# Altium footprint library 第二版PCB.PcbLib: 20 footprints (part 2 of 2)
Each footprint in its own frame and in the unit in brackets; x right, y up, seen from the top. Pads: shape width x height; smd on the part's side, far side on the other; paste and mask are expansions set on the pad; w line width, h text height; cw(c..) or ccw(c..) is an arc to the next point about the centre after c.
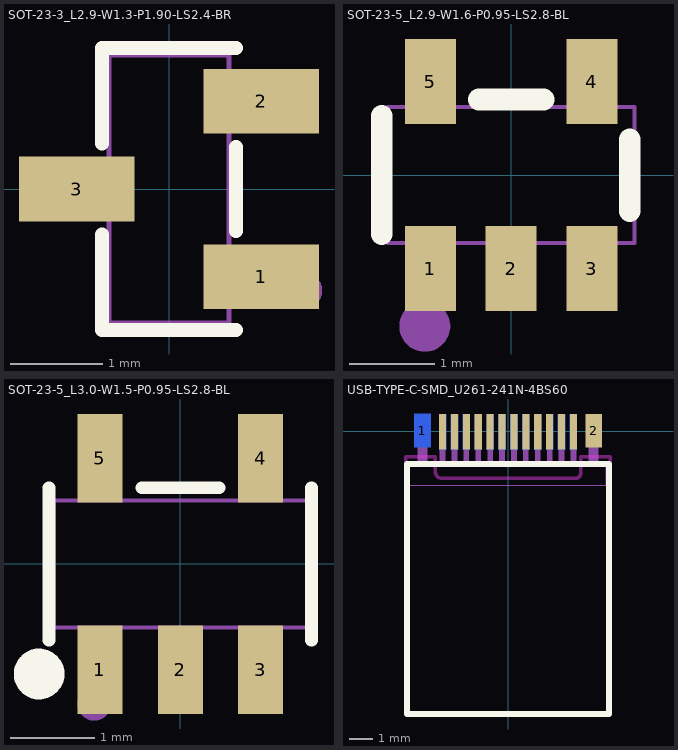
[diagram p1: the footprints below, top view; thin cyan lines are the x and y axes]

## SOT-23-3_L2.9-W1.3-P1.90-LS2.4-BR [mm]
pads (3):
  rect 1.25x0.7 smd paste+0 mask+0.051: 1(1,-0.95) 2(1,0.95) 3(-1,0)
Top Overlay:
  lines w0.152: -0.726,-0.495 -0.726,-1.526 0.726,-1.526 ; -0.726,0.495 -0.726,1.526 0.726,1.526 ; 0.726,-0.455 0.726,0.455
Mechanical 6:
  circle w0.2: c1.46,-1.1 r0.1
Mechanical 15:
  region: 0.64,0.735 0.64,1.165 0.91,1.165 0.91,0.735
  region: 0.9,0.735 0.9,1.165 1.2,1.165 1.2,0.735
  region: 0.64,-1.165 0.64,-0.735 0.91,-0.735 0.91,-1.165
  region: 0.9,-1.165 0.9,-0.735 1.2,-0.735 1.2,-1.165
  region: -0.91,-0.215 -0.91,0.215 -0.64,0.215 -0.64,-0.215
  region: -1.2,-0.215 -1.2,0.215 -0.9,0.215 -0.9,-0.215
  lines w0.051: -0.65,-1.45 -0.65,1.45 0.65,1.45 0.65,-1.45 -0.65,-1.45

## SOT-23-5_L2.9-W1.6-P0.95-LS2.8-BL [mm]
pads (5):
  rect 0.6x1 smd paste+0 mask+0.05: 1(-0.95,-1.1) 2(0,-1.1) 3(0.95,-1.1) 4(0.95,1.1) 5(-0.95,1.1)
Top Overlay:
  lines w0.254: -1.524,-0.699 -1.524,0.699 ; -0.381,0.889 0.381,0.889 ; 1.397,-0.422 1.397,0.422
Mechanical 6:
  circle w0.3: c-1.016,-1.778 r0.15
Mechanical 15:
  region: -1.15,0.95 -1.15,1.4 -0.75,1.4 -0.75,0.95
  region: -1.15,0.79 -1.15,0.96 -0.75,0.96 -0.75,0.79
  region: 0.75,0.95 0.75,1.4 1.15,1.4 1.15,0.95
  region: 0.75,0.79 0.75,0.96 1.15,0.96 1.15,0.79
  region: -1.15,-1.4 -1.15,-0.95 -0.75,-0.95 -0.75,-1.4
  region: -1.15,-0.96 -1.15,-0.79 -0.75,-0.79 -0.75,-0.96
  region: 0.75,-1.4 0.75,-0.95 1.15,-0.95 1.15,-1.4
  region: 0.75,-0.96 0.75,-0.79 1.15,-0.79 1.15,-0.96
  region: -0.2,-1.4 -0.2,-0.95 0.2,-0.95 0.2,-1.4
  region: -0.2,-0.96 -0.2,-0.79 0.2,-0.79 0.2,-0.96
  lines w0.051: -1.45,-0.8 1.45,-0.8 1.45,0.8 -1.45,0.8 -1.45,-0.8

## SOT-23-5_L3.0-W1.5-P0.95-LS2.8-BL [mm]
pads (5):
  rect 0.532x1.045 smd: 1(-0.95,-1.25) 2(0,-1.25) 3(0.95,-1.25) 4(0.95,1.25) 5(-0.95,1.25)
Top Overlay:
  circle w0.3: c-1.668,-1.3 r0.15
  lines w0.152: -1.551,-0.901 -1.551,0.901 ; -0.455,0.901 0.455,0.901 ; 1.551,-0.901 1.551,0.901
Mechanical 6:
  circle w0.2: c-1.016,-1.651 r0.1
Mechanical 15:
  region: 1.163,-0.96 0.737,-0.96 0.737,-0.74 1.163,-0.74
  region: 0.213,-0.96 -0.212,-0.96 -0.212,-0.74 0.213,-0.74
  region: -0.737,-0.96 -1.162,-0.96 -1.162,-0.74 -0.737,-0.74
  region: 0.737,0.96 1.162,0.96 1.162,0.74 0.737,0.74
  region: -1.163,-0.95 -0.737,-0.95 -0.737,-1.4 -1.163,-1.4
  region: -0.212,-0.95 0.212,-0.95 0.212,-1.4 -0.212,-1.4
  region: 0.737,-0.95 1.163,-0.95 1.163,-1.4 0.737,-1.4
  region: 0.737,0.95 1.163,0.95 1.163,1.4 0.737,1.4
  region: -1.163,0.95 -0.737,0.95 -0.737,1.4 -1.163,1.4
  region: -1.163,0.96 -0.737,0.96 -0.737,0.74 -1.163,0.74
  lines w0.051: -1.5,-0.75 1.5,-0.75 1.5,0.75 -1.5,0.75 -1.5,-0.75

## USB-TYPE-C-SMD_U261-241N-4BS60 [mm]
pads (26):
  rect 0.7x1.4 smd far side paste+0 mask+0.05: 1(-3.6,0.025)
  rect 0.7x1.4 smd paste+0 mask+0.05: 2(3.6,0.025)
  rect 0.3x1.5 smd paste+0 mask+0.05: A1(2.75,-0.025) A2(2.25,-0.025) A3(1.75,-0.025) A4(1.25,-0.025) A5(0.75,-0.025) A6(0.25,-0.025) A7(-0.25,-0.025) A8(-0.75,-0.025) A9(-1.25,-0.025) A10(-1.75,-0.025) A11(-2.25,-0.025) A12(-2.75,-0.025)
  rect 0.3x1.5 smd far side paste+0 mask+0.05: B1(-2.75,-0.025) B2(-2.25,-0.025) B3(-1.75,-0.025) B4(-1.25,-0.025) B5(-0.75,-0.025) B6(-0.25,-0.025) B7(0.25,-0.025) B8(0.75,-0.025) B9(1.25,-0.025) B10(1.75,-0.025) B11(2.25,-0.025) B12(2.75,-0.025)
Top Overlay:
  lines w0.254: -4.25,-11.885 -4.25,-1.385 4.25,-1.385 4.25,-11.885 -4.25,-11.885
Keep-Out Layer:
  lines w0.15: -4.3,-1.075 -4.3,-1.975 -4.3,-1.075 ; -4.3,-1.075 -3.05,-1.075 ; -4.3,-1.075 -3.05,-1.075 ; -3.05,-1.719 ccw(c-2.794,-1.719) -2.794,-1.975 cw(c-2.794,-1.719) -3.05,-1.719 ; -3.05,-1.719 -3.05,-1.7 ; -3.05,-1.719 -3.05,-1.7 ; -3.05,-1.7 -3.05,-1.075 ; -3.05,-1.7 -3.05,-1.075 ; 2.86,-1.975 ccw(c2.86,-1.785) 3.05,-1.785 ; 2.86,-1.975 ccw(c2.86,-1.785) 3.05,-1.785 ; 2.86,-1.975 -2.741,-1.975 2.86,-1.975 ; 3.05,-1.785 3.05,-1.075 ; 3.05,-1.785 3.05,-1.075 ; 3.05,-1.075 4.3,-1.075 ; 3.05,-1.075 4.3,-1.075 ; 4.3,-1.075 4.3,-1.975 4.3,-1.075
Mechanical 15:
  region: -3.8,0.325 -3.4,0.325 -3.4,-1.425 -3.8,-1.425
  region: 3.4,0.325 3.8,0.325 3.8,-1.425 3.4,-1.425
  region: 2.64,0.325 2.86,0.325 2.86,-1.425 2.64,-1.425
  region: 2.14,0.325 2.36,0.325 2.36,-1.425 2.14,-1.425
  region: 1.64,0.325 1.86,0.325 1.86,-1.425 1.64,-1.425
  region: 1.14,0.325 1.36,0.325 1.36,-1.425 1.14,-1.425
  region: 0.64,0.325 0.86,0.325 0.86,-1.425 0.64,-1.425
  region: 0.14,0.325 0.36,0.325 0.36,-1.425 0.14,-1.425
  region: -0.36,0.325 -0.14,0.325 -0.14,-1.425 -0.36,-1.425
  region: -0.86,0.325 -0.64,0.325 -0.64,-1.425 -0.86,-1.425
  region: -1.36,0.325 -1.14,0.325 -1.14,-1.425 -1.36,-1.425
  region: -1.86,0.325 -1.64,0.325 -1.64,-1.425 -1.86,-1.425
  region: -2.36,0.325 -2.14,0.325 -2.14,-1.425 -2.36,-1.425
  region: -2.86,0.325 -2.64,0.325 -2.64,-1.425 -2.86,-1.425
  region: -2.86,0.325 -2.64,0.325 -2.64,-1.425 -2.86,-1.425
  region: -2.36,0.325 -2.14,0.325 -2.14,-1.425 -2.36,-1.425
  region: -1.86,0.325 -1.64,0.325 -1.64,-1.425 -1.86,-1.425
  region: -1.36,0.325 -1.14,0.325 -1.14,-1.425 -1.36,-1.425
  region: -0.86,0.325 -0.64,0.325 -0.64,-1.425 -0.86,-1.425
  region: -0.36,0.325 -0.14,0.325 -0.14,-1.425 -0.36,-1.425
  region: 0.14,0.325 0.36,0.325 0.36,-1.425 0.14,-1.425
  region: 0.64,0.325 0.86,0.325 0.86,-1.425 0.64,-1.425
  region: 1.14,0.325 1.36,0.325 1.36,-1.425 1.14,-1.425
  region: 1.64,0.325 1.86,0.325 1.86,-1.425 1.64,-1.425
  region: 2.14,0.325 2.36,0.325 2.36,-1.425 2.14,-1.425
  region: 2.64,0.325 2.86,0.325 2.86,-1.425 2.64,-1.425
  lines w0.051: -4.125,-2.275 4.125,-2.275 4.125,-1.375 -4.125,-1.375 -4.125,-2.275